# EAGLE library part ZHX2022 (library m-pad-2.1)
ZILOG ZHX2022 FIR Transceiver Description: Whether you need to mount the IrDA transceiver so that its communication is parallel or perpendicular to the plane of the PCB, the ZiLOG ZHX2022 is the solution for applications in portable products, such as USB Adapters, notebook PCs, printers, mobile phones, digital cameras, handheld devices, or personal data assistants (PDAs). Designed to support all IrDA data rates up to 4 Mbits/second as well as LocalTalk? and Sharp ASK? modes, the transceiver combines an infrared emitting diode (IRED) emitter, a PIN photodiode detector, an IRED driver, and an integrated AGC (Automatic Gain Control) and amplification receive circuit in a single, miniature package. The ZiLOG ZHX2022 provides an efficient implementation of the IrDA-Data 1.4 standard in a small footprint format. Application circuit space is also minimized, as only three external components (current-limiting resistor, terminating resistor, and a decoupling capacitor) are required to implement a complete IrDA transceiver solution. The ZHX2022 is capable of both mode select and legacy-mode bandwidth switching. Features : Supply voltage 2.7 V to 5.5 V, operating idle current (receive mode) < 3 mA, shutdown current < 5 µA over full temperature range Surface mount package, top and side view, 9.7 mm x 4.7 mm x 4.0 mm Operating temperature: ?30 °C to 85 °C Storage temperature: ?40 °C to 85 °C Transmitter wavelength typically 886 nm, supporting IrDA® and Remote Control Tri-state-receiver output, floating in shut down with a weak pull-up Eye safety class 1 (IEC60825-1, ed. 2001), limited LED on-time, LED current is controlled, no single fault to be considered Please send any comments to: messi@users.sourceforge.net
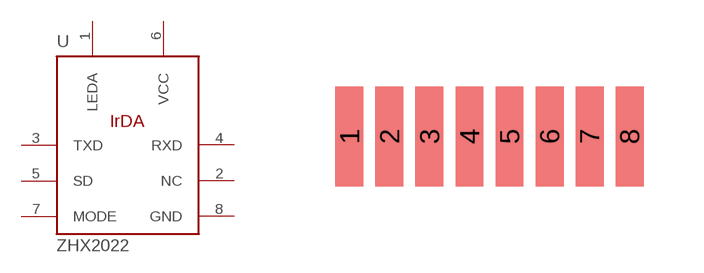
[diagram p36: symbol with the pads of ZHX2022; footprint ZHX2022]

Designator prefix U

## ZHX2022  [ZHX2022]
1  LEDA  pwr
2  NC  nc
3  TXD  in
4  RXD  out
5  SD  in
6  VCC  pwr
7  MODE
8  GND  pwr

## Footprint ZHX2022 (pad centres in mm)
Zilog packaging for the IrDA device ZHX1810 Please send any comments to: messi@users.sourceforge.net
smd 0.7 x 2.5: 1 -3.5,0; 2 -2.5,0; 3 -1.5,0; 4 -0.5,0; 5 0.5,0; 6 1.5,0; 7 2.5,0; 8 3.5,0